# Altium integrated library 1N4735A.IntLib: 1 symbol
Pins are listed as number, name and electrical type; pins without a type are passive.

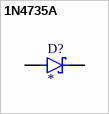
[diagram p0: symbol 1N4735A]

## 1N4735A
designator D?
Zener Diode 6.2V 1W Â±5% Through Hole DO-204AL (DO-41); MF: ON Semiconductor; MP: 1N4735A; SnapEDA_Link: https://www.snapeda.com/parts/1N4735A/Onsemi/view-part/?ref=snap; Package: DO-41 ON Semiconductor; Value: *; Check_prices: https://www.snapeda.com/parts/1N4735A/Onsemi/view-part/?ref=eda
footprint DO41-10
pins: 1 K, 2 A